# Altium schematic symbol library semiconductors.SchLib: 4 symbols
Pins are listed as number, name and electrical type; pins without a type are passive.

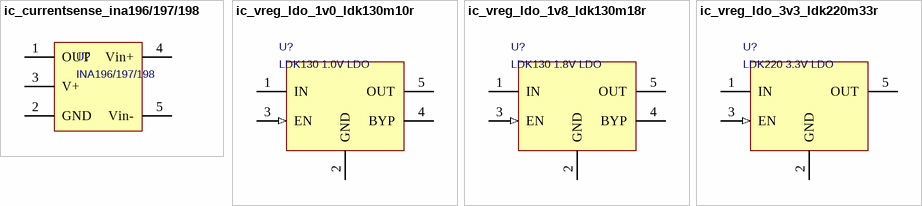
[diagram p0: symbols ic_currentsense_ina196/197/198 to ic_vreg_ldo_3v3_ldk220m33r]

## ic_currentsense_ina196/197/198
designator U?, comment INA196/197/198
ic_currentsense_ina196/197/198
pins: 1 OUT "Voltage output", 2 GND (power) "Ground", 3 V+ (power) "Power input", 4 Vin+ (hiz) "Non-inverting sense input", 5 Vin- (hiz) "Inverting sense input"

## ic_vreg_ldo_1v0_ldk130m10r
designator U?, comment LDK130 1.0V LDO
ic_vreg_ldo_1v0_ldk130m10r; Output Voltage: 1.0 V
pins: 1 IN (power) "Input Voltage of the LDO", 2 GND (power) "Common ground", 3 EN (in) "Enable pin logic input: Low = shutdown, High = active", 4 BYP "Bypass capacitor", 5 OUT (power) "Output voltage of the LDO"

## ic_vreg_ldo_1v8_ldk130m18r
designator U?, comment LDK130 1.8V LDO
ic_vreg_ldo_1v8_ldk130m18r; Output Voltage: 1.8 V
pins: 1 IN (power) "Input Voltage of the LDO", 2 GND (power) "Common ground", 3 EN (in) "Enable pin logic input: Low = shutdown, High = active", 4 BYP "Bypass capacitor", 5 OUT (power) "Output voltage of the LDO"

## ic_vreg_ldo_3v3_ldk220m33r
designator U?, comment LDK220 3.3V LDO
ic_vreg_ldo_3v3_ldk220m33r; Output Voltage: 3.3 V
pins: 1 IN (power) "Input Voltage of the LDO", 2 GND (power) "Common ground", 3 EN (in) "Enable pin logic input: Low = shutdown, High = active", 4 NC hidden "Not Connected", 5 OUT (power) "Output voltage of the LDO"